# EAGLE library part DAC7801P (library burr-brown)
12-Bit Multiplying DAC
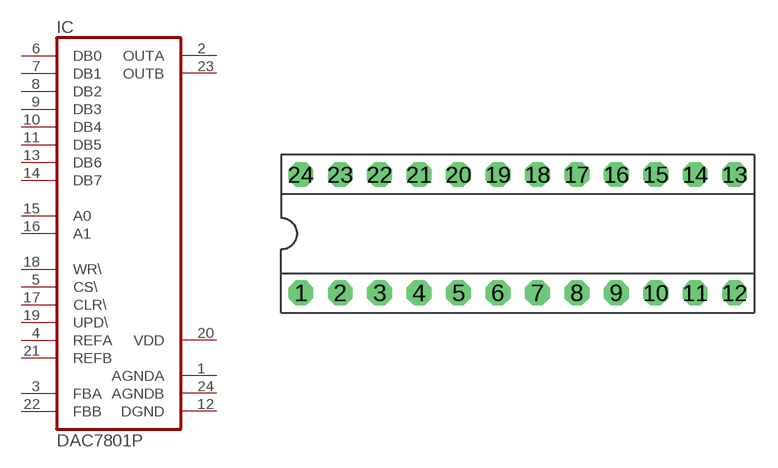
[diagram p197: symbol with the pads of DIP-24/3; footprint DIP-24/3]

Designator prefix IC

## DAC7801P  [DIP-24/3]
1  AGNDA  pwr
2  OUTA  out
3  FBA  pas
4  REFA  in
5  CS\  in
6  DB0  in
7  DB1  in
8  DB2  in
9  DB3  in
10  DB4  in
11  DB5  in
12  DGND  pwr
13  DB6  in
14  DB7  in
15  A0  in
16  A1  in
17  CLR\  in
18  WR\  in
19  UPD\  in
20  VDD  pwr
21  REFB  in
22  FBB  pas
23  OUTB  out
24  AGNDB  pwr

## Footprint DIP-24/3 (pad centres in mm)
drill 0.813 pad 1.6 octagon: 1 -13.97,-3.81; 2 -11.43,-3.81; 3 -8.89,-3.81; 4 -6.35,-3.81; 5 -3.81,-3.81; 6 -1.27,-3.81; 7 1.27,-3.81; 8 3.81,-3.81; 9 6.35,-3.81; 10 8.89,-3.81; 11 11.43,-3.81; 12 13.97,-3.81; 13 13.97,3.81; 14 11.43,3.81; 15 8.89,3.81; 16 6.35,3.81; 17 3.81,3.81; 18 1.27,3.81; 19 -1.27,3.81; 20 -3.81,3.81; 21 -6.35,3.81; 22 -8.89,3.81; 23 -11.43,3.81; 24 -13.97,3.81